# EAGLE library part A000005 (library arduino-nano)
CLOCK SAW OSCILLATOR SEAM7050 T& Check availability <https://pricing.snapeda.com/parts/A000005/Arduino/view-part?ref=eda>
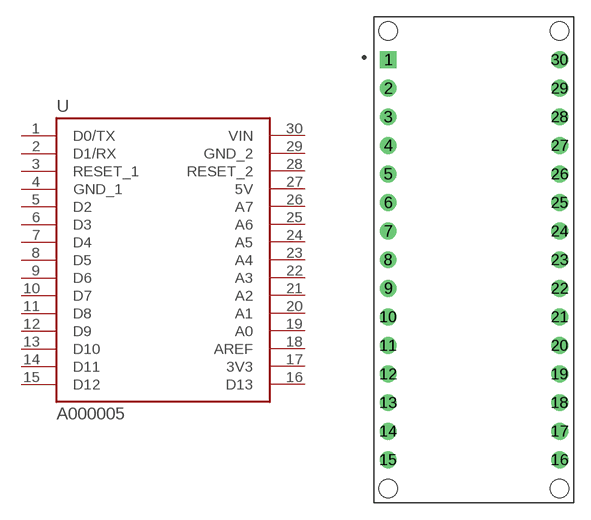
[diagram p0: symbol with the pads of MODULE_A000005; footprint MODULE_A000005]

Designator prefix U

## A000005 (Availability: In Stock; Description: Small, complete, and breadboard-friendly board based on the ATmega328 (Arduino Nano 3.x).; MF: Arduino; MP: A000005; Package: Non-Standard Arduino; Price: None; Purchase-URL: https://pricing.snapeda.com/search/part/A000005/?ref=eda)  [MODULE_A000005]
1  D0/TX
2  D1/RX
3  RESET_1  in
4  GND_1  pwr
5  D2
6  D3
7  D4
8  D5
9  D6
10  D7
11  D8
12  D9
13  D10
14  D11
15  D12
16  D13
17  3V3  pwr
18  AREF  in
19  A0  in
20  A1  in
21  A2  in
22  A3  in
23  A4  in
24  A5  in
25  A6  in
26  A7  in
27  5V  pwr
28  RESET_2  in
29  GND_2  pwr
30  VIN  pwr

## Footprint MODULE_A000005 (pad centres in mm)
drill 1 square: 1 -7.62,17.78
drill 1: 2 -7.62,15.24; 3 -7.62,12.7; 4 -7.62,10.16; 5 -7.62,7.62; 6 -7.62,5.08; 7 -7.62,2.54; 8 -7.62,0; 9 -7.62,-2.54; 10 -7.62,-5.08; 11 -7.62,-7.62; 12 -7.62,-10.16; 13 -7.62,-12.7; 14 -7.62,-15.24; 15 -7.62,-17.78; 16 7.62,-17.78; 17 7.62,-15.24; 18 7.62,-12.7; 19 7.62,-10.16; 20 7.62,-7.62; 21 7.62,-5.08; 22 7.62,-2.54; 23 7.62,0; 24 7.62,2.54; 25 7.62,5.08; 26 7.62,7.62; 27 7.62,10.16; 28 7.62,12.7; 29 7.62,15.24; 30 7.62,17.78
hole 1.651 at -7.62,-20.32
hole 1.651 at 7.62,-20.32
hole 1.651 at -7.62,20.32
hole 1.651 at 7.62,20.32